# Altium schematic symbol library AVR_Attiny85_1.Schlib: 1 symbol
Pins are listed as number, name and electrical type; pins without a type are passive.

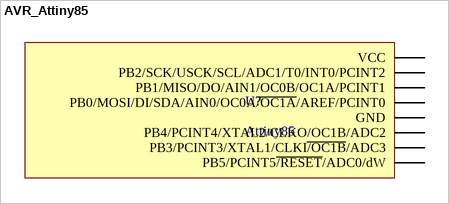
[diagram p0: symbol AVR_Attiny85]

## AVR_Attiny85
designator U?, comment Attiny85
footprint DIP8-tiny
pins: 1 PB5/PCINT5~{/R}~{E}~{S}~{E}~{T}/ADC0/dW, 2 PB3/PCINT3/XTAL1/CLKI~{/O}~{C}~{1}~{B}/ADC3, 3 PB4/PCINT4/XTAL2/CLKO/OC1B/ADC2, 4 GND, 5 PB0/MOSI/DI/SDA/AIN0/OC0A~{/O}~{C}~{1}~{A}/AREF/PCINT0, 6 PB1/MISO/DO/AIN1/OC0B/OC1A/PCINT1, 7 PB2/SCK/USCK/SCL/ADC1/T0/INT0/PCINT2, 8 VCC